# Altium footprint library arduinopromini.PcbLib: 1 footprints
Each footprint in its own frame and in the unit in brackets; x right, y up, seen from the top. Pads: shape width x height; smd on the part's side, far side on the other; paste and mask are expansions set on the pad; w line width, h text height; cw(c..) or ccw(c..) is an arc to the next point about the centre after c.
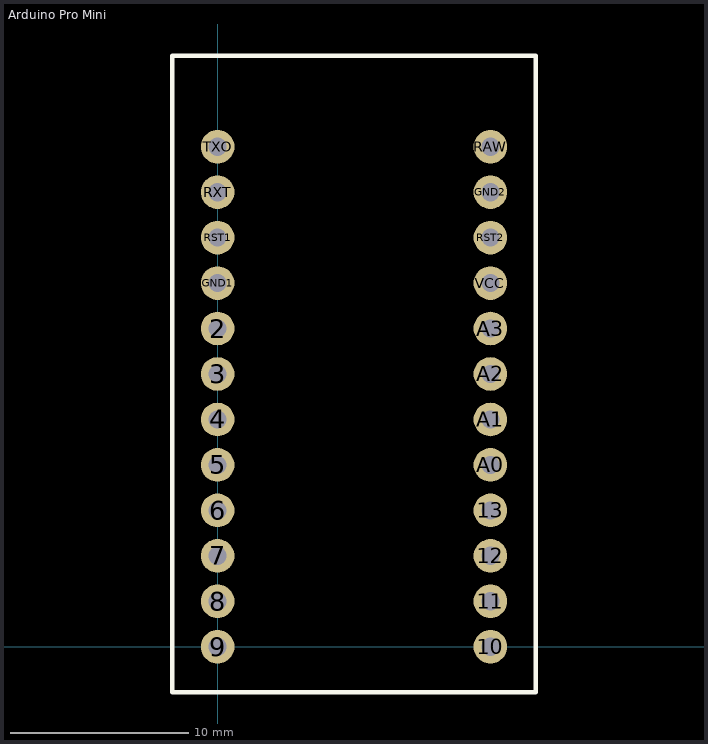
[diagram p0: the footprint, top view; thin cyan lines are the x and y axes]

## Arduino Pro Mini [mil]
pads (24):
  round 74 hole 40: 2(0,700) 3(0,600) 4(0,500) 5(0,400) 6(0,300) 7(0,200) 8(0,100) 9(0,0) 10(600,0) 11(600,100) 12(600,200) 13(600,300) A0(600,400) A1(600,500) A2(600,600) A3(600,700) GND1(0,800) GND2(600,1000) RAW(600,1100) RST1(0,900) RST2(600,900) RXT(0,1000) TXO(0,1100) VCC(600,800)
Top Overlay:
  lines w10: -100,-100 -100,1300 700,1300 700,-100 -100,-100